# Altium footprint library WR-WTB_1.50mm.PcbLib: 27 footprints (part 2 of 2)
Each footprint in its own frame and in the unit in brackets; x right, y up, seen from the top. Pads: shape width x height; smd on the part's side, far side on the other; paste and mask are expansions set on the pad; w line width, h text height; cw(c..) or ccw(c..) is an arc to the next point about the centre after c.
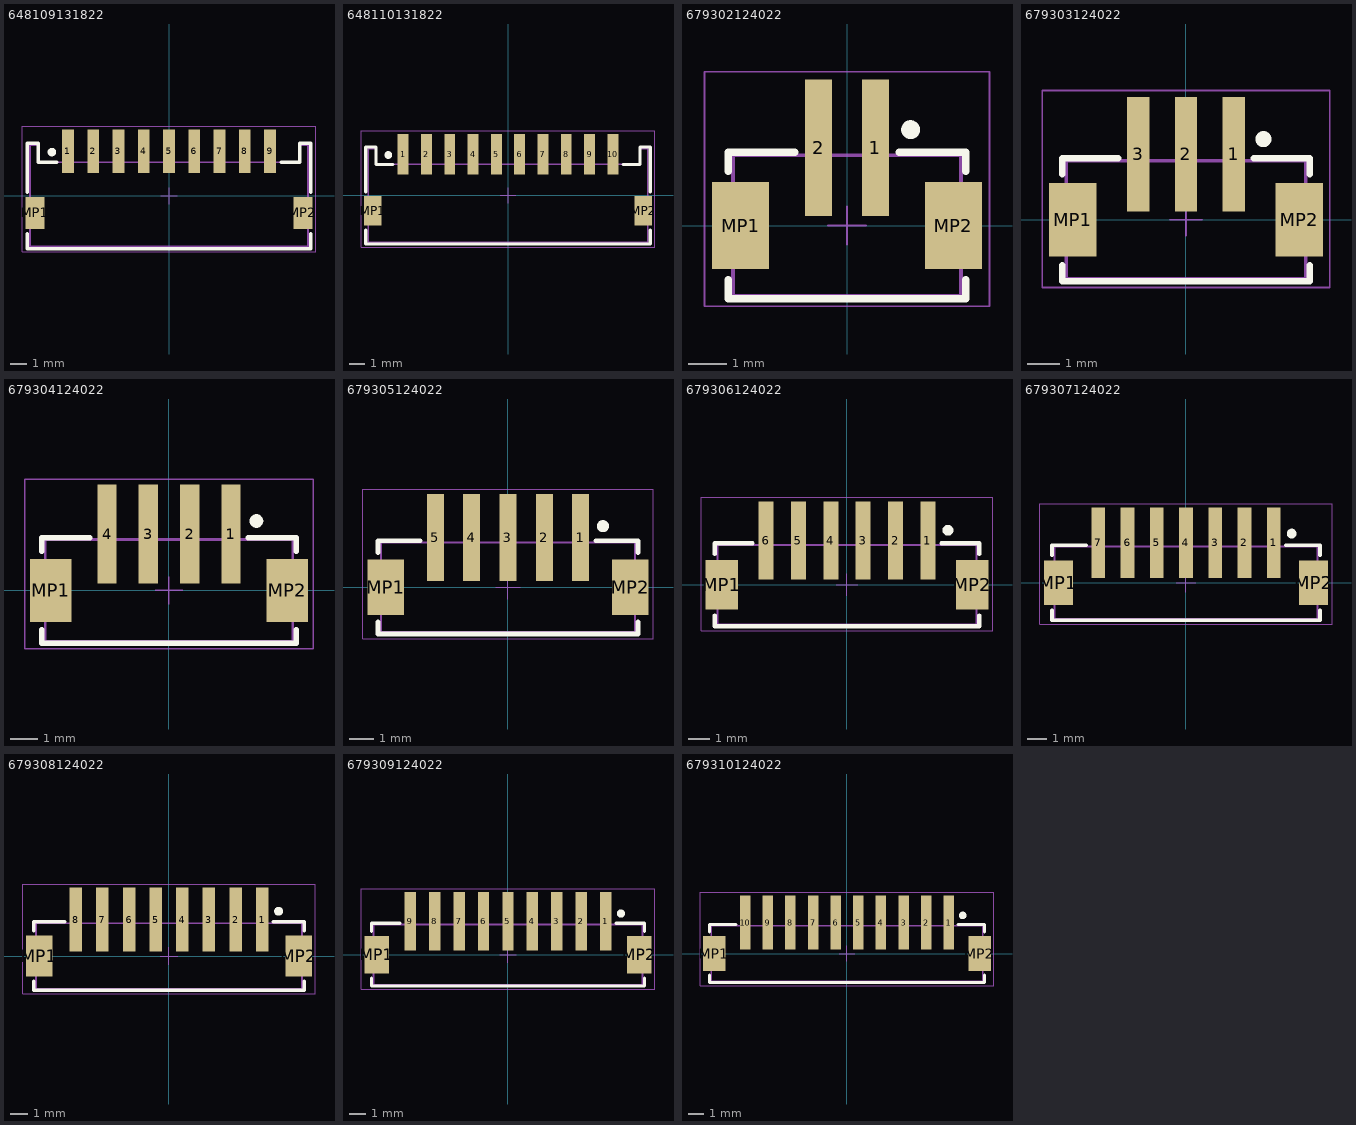
[diagram p1: the footprints below, top view; thin cyan lines are the x and y axes]

## 648109131822 [mm] "1.50mm SMT Male Horizontal Shrouded Header, 9p"
height 3.7
pads (11):
  rect 0.7x2.6 smd: 1(-6,2.65) 2(-4.5,2.65) 3(-3,2.65) 4(-1.5,2.65) 5(0,2.65) 6(1.5,2.65) 7(3,2.65) 8(4.5,2.65) 9(6,2.65)
  rect 1.1x1.9 smd: MP1(-7.95,-1) MP2(7.95,-1)
Top Overlay:
  circle w0.25: c-6.95,2.6 r0.125
  lines w0.2: -8.4,-2.225 -8.4,-3.125 8.4,-3.125 8.4,-2.225 ; -8.4,0.225 -8.4,3.125 -7.75,3.125 -7.75,2 -6.65,2 ; 6.65,2 7.75,2 7.75,3.125 8.4,3.125 8.4,0.225
Mechanical 13:
  lines w0.1: -8.25,-3 -8.25,3 -7.75,3 -7.75,2 7.75,2 7.75,3 8.25,3 8.25,-3 -8.25,-3
Mechanical 15:
  lines w0.05: -0.5,0 0.5,0 ; 0,-0.5 0,0.5 ; -8.7,-3.325 -8.7,4.15 8.7,4.15 8.7,-3.325 -8.7,-3.325
3D body "648109131822.stp": height 3.74, standoff -0.01, extent -8.355,-3 8.355,3.47

## 648110131822 [mm] "1.50mm SMT Male Horizontal Shrouded Header, 10p"
height 3.7
pads (12):
  rect 0.7x2.6 smd: 1(-6.75,2.65) 2(-5.25,2.65) 3(-3.75,2.65) 4(-2.25,2.65) 5(-0.75,2.65) 6(0.75,2.65) 7(2.25,2.65) 8(3.75,2.65) 9(5.25,2.65) 10(6.75,2.65)
  rect 1.1x1.9 smd: MP1(-8.7,-1) MP2(8.7,-1)
Top Overlay:
  circle w0.25: c-7.7,2.6 r0.125
  lines w0.2: -9.15,-2.225 -9.15,-3.125 9.15,-3.125 9.15,-2.225 ; -9.15,0.225 -9.15,3.125 -8.5,3.125 -8.5,2 -7.4,2 ; 7.4,2 8.5,2 8.5,3.125 9.15,3.125 9.15,0.225
Mechanical 13:
  lines w0.1: -9,-3 -9,3 -8.5,3 -8.5,2 8.5,2 8.5,3 9,3 9,-3 -9,-3
Mechanical 15:
  lines w0.05: -0.5,0 0.5,0 ; 0,-0.5 0,0.5 ; -9.45,-3.325 -9.45,4.15 9.45,4.15 9.45,-3.325 -9.45,-3.325
3D body "648110131822.stp": height 3.74, standoff -0.01, extent -9.105,-3 9.105,3.47

## 679302124022 [mm] "1.50mm SMT Male Vertical Shrouded Header, 2p"
height 5
pads (4):
  rect 0.7x3.6 smd: 1(0.75,2.05) 2(-0.75,2.05)
  rect 1.5x2.3 smd: MP1(-2.8,0) MP2(2.8,0)
Top Overlay:
  circle w0.25: c1.675,2.525 r0.125
  lines w0.2: -3.125,-1.425 -3.125,-1.925 3.125,-1.925 3.125,-1.425 ; -3.125,1.425 -3.125,1.925 -1.375,1.925 ; 1.375,1.925 3.125,1.925 3.125,1.425
Mechanical 13:
  lines w0.1: -3,-1.85 3,-1.85 3,1.85 -3,1.85 -3,-1.85
Mechanical 15:
  lines w0.05: -0.5,0 0.5,0 ; 0,-0.5 0,0.5 ; -3.75,-2.125 3.75,-2.125 3.75,4.05 -3.75,4.05 -3.75,-2.125
3D body "679302124022.stp": height 5.49, standoff -0.01, extent -3,-1.85 3,3.35

## 679303124022 [mm] "1.50mm SMT Male Vertical Shrouded Header, 3p"
height 5
pads (5):
  rect 0.7x3.6 smd: 1(1.5,2.05) 2(0,2.05) 3(-1.5,2.05)
  rect 1.5x2.3 smd: MP1(-3.55,0) MP2(3.55,0)
Top Overlay:
  circle w0.25: c2.425,2.525 r0.125
  lines w0.2: -3.875,-1.425 -3.875,-1.925 3.875,-1.925 3.875,-1.425 ; -3.875,1.425 -3.875,1.925 -2.125,1.925 ; 2.125,1.925 3.875,1.925 3.875,1.425
Mechanical 13:
  lines w0.1: -3.75,-1.85 3.75,-1.85 3.75,1.85 -3.75,1.85 -3.75,-1.85
Mechanical 15:
  lines w0.05: -0.5,0 0.5,0 ; 0,-0.5 0,0.5 ; -4.5,-2.125 4.5,-2.125 4.5,4.05 -4.5,4.05 -4.5,-2.125
3D body "679303124022.stp": height 5.49, standoff -0.01, extent -3.75,-1.85 3.75,3.35

## 679304124022 [mm] "1.50mm SMT Male Vertical Shrouded Header, 4p"
height 5
pads (6):
  rect 0.7x3.6 smd: 1(2.25,2.05) 2(0.75,2.05) 3(-0.75,2.05) 4(-2.25,2.05)
  rect 1.5x2.3 smd: MP1(-4.3,0) MP2(4.3,0)
Top Overlay:
  circle w0.25: c3.175,2.525 r0.125
  lines w0.2: -4.625,-1.425 -4.625,-1.925 4.625,-1.925 4.625,-1.425 ; -4.625,1.425 -4.625,1.925 -2.875,1.925 ; 2.875,1.925 4.625,1.925 4.625,1.425
Mechanical 13:
  lines w0.1: -4.5,-1.85 -4.5,1.85 4.5,1.85 4.5,-1.85 -4.5,-1.85
Mechanical 15:
  lines w0.05: -0.5,0 0.5,0 ; 0,-0.5 0,0.5 ; -5.25,-2.125 -5.25,4.05 5.25,4.05 5.25,-2.125 -5.25,-2.125
3D body "679304124022.stp": height 5.49, standoff -0.01, extent -4.5,-1.85 4.5,3.35

## 679305124022 [mm] "1.50mm SMT Male Vertical Shrouded Header, 5p"
height 5
pads (7):
  rect 0.7x3.6 smd: 1(3,2.05) 2(1.5,2.05) 3(0,2.05) 4(-1.5,2.05) 5(-3,2.05)
  rect 1.5x2.3 smd: MP1(-5.05,0) MP2(5.05,0)
Top Overlay:
  circle w0.25: c3.925,2.525 r0.125
  lines w0.2: -5.375,-1.425 -5.375,-1.925 5.375,-1.925 5.375,-1.425 ; -5.375,1.425 -5.375,1.925 -3.625,1.925 ; 3.625,1.925 5.375,1.925 5.375,1.425
Mechanical 13:
  lines w0.1: -5.25,-1.85 5.25,-1.85 5.25,1.85 -5.25,1.85 -5.25,-1.85
Mechanical 15:
  lines w0.05: -0.5,0 0.5,0 ; 0,-0.5 0,0.5 ; -6,-2.125 6,-2.125 6,4.05 -6,4.05 -6,-2.125
3D body "679305124022.stp": height 5.49, standoff -0.01, extent -5.25,-1.85 5.25,3.35

## 679306124022 [mm] "1.50mm SMT Male Vertical Shrouded Header, 6p"
height 5
pads (8):
  rect 0.7x3.6 smd: 1(3.75,2.05) 2(2.25,2.05) 3(0.75,2.05) 4(-0.75,2.05) 5(-2.25,2.05) 6(-3.75,2.05)
  rect 1.5x2.3 smd: MP1(-5.8,0) MP2(5.8,0)
Top Overlay:
  circle w0.25: c4.675,2.525 r0.125
  lines w0.2: -6.125,-1.425 -6.125,-1.925 6.125,-1.925 6.125,-1.425 ; -6.125,1.425 -6.125,1.925 -4.375,1.925 ; 4.375,1.925 6.125,1.925 6.125,1.425
Mechanical 13:
  lines w0.1: -6,-1.85 6,-1.85 6,1.85 -6,1.85 -6,-1.85
Mechanical 15:
  lines w0.05: -0.5,0 0.5,0 ; 0,-0.5 0,0.5 ; -6.75,-2.125 6.75,-2.125 6.75,4.05 -6.75,4.05 -6.75,-2.125
3D body "679306124022.stp": height 5.49, standoff -0.01, extent -6,-1.85 6,3.35

## 679307124022 [mm] "1.50mm SMT Male Vertical Shrouded Header, 7p"
height 5
pads (9):
  rect 0.7x3.6 smd: 1(4.5,2.05) 2(3,2.05) 3(1.5,2.05) 4(0,2.05) 5(-1.5,2.05) 6(-3,2.05) 7(-4.5,2.05)
  rect 1.5x2.3 smd: MP1(-6.55,0) MP2(6.55,0)
Top Overlay:
  circle w0.25: c5.425,2.525 r0.125
  lines w0.2: -6.875,-1.425 -6.875,-1.925 6.875,-1.925 6.875,-1.425 ; -6.875,1.425 -6.875,1.925 -5.125,1.925 ; 5.125,1.925 6.875,1.925 6.875,1.425
Mechanical 13:
  lines w0.1: -6.75,-1.85 6.75,-1.85 6.75,1.85 -6.75,1.85 -6.75,-1.85
Mechanical 15:
  lines w0.05: -0.5,0 0.5,0 ; 0,-0.5 0,0.5 ; -7.5,-2.125 7.5,-2.125 7.5,4.05 -7.5,4.05 -7.5,-2.125
3D body "679307124022.stp": height 5.49, standoff -0.01, extent -6.75,-1.85 6.75,3.35

## 679308124022 [mm] "1.50mm SMT Male Vertical Shrouded Header, 8p"
height 5
pads (10):
  rect 0.7x3.6 smd: 1(5.25,2.05) 2(3.75,2.05) 3(2.25,2.05) 4(0.75,2.05) 5(-0.75,2.05) 6(-2.25,2.05) 7(-3.75,2.05) 8(-5.25,2.05)
  rect 1.5x2.3 smd: MP1(-7.3,0) MP2(7.3,0)
Top Overlay:
  circle w0.25: c6.175,2.525 r0.125
  lines w0.2: -7.625,-1.425 -7.625,-1.925 7.625,-1.925 7.625,-1.425 ; -7.625,1.425 -7.625,1.925 -5.875,1.925 ; 5.875,1.925 7.625,1.925 7.625,1.425
Mechanical 13:
  lines w0.1: -7.5,-1.85 -7.5,1.85 7.5,1.85 7.5,-1.85 -7.5,-1.85
Mechanical 15:
  lines w0.05: -0.5,0 0.5,0 ; 0,-0.5 0,0.5 ; -8.25,-2.125 -8.25,4.05 8.25,4.05 8.25,-2.125 -8.25,-2.125
3D body "679308124022.stp": height 5.49, standoff -0.01, extent -7.5,-1.85 7.5,3.35

## 679309124022 [mm] "1.50mm SMT Male Vertical Shrouded Header, 9p"
height 5
pads (11):
  rect 0.7x3.6 smd: 1(6,2.05) 2(4.5,2.05) 3(3,2.05) 4(1.5,2.05) 5(0,2.05) 6(-1.5,2.05) 7(-3,2.05) 8(-4.5,2.05) 9(-6,2.05)
  rect 1.5x2.3 smd: MP1(-8.05,0) MP2(8.05,0)
Top Overlay:
  circle w0.25: c6.925,2.525 r0.125
  lines w0.2: -8.375,-1.425 -8.375,-1.925 8.375,-1.925 8.375,-1.425 ; -8.375,1.425 -8.375,1.925 -6.625,1.925 ; 6.625,1.925 8.375,1.925 8.375,1.425
Mechanical 13:
  lines w0.1: -8.25,-1.85 -8.25,1.85 8.25,1.85 8.25,-1.85 -8.25,-1.85
Mechanical 15:
  lines w0.05: -0.5,0 0.5,0 ; 0,-0.5 0,0.5 ; -9,-2.125 -9,4.05 9,4.05 9,-2.125 -9,-2.125
3D body "679309124022.stp": height 5.49, standoff -0.01, extent -8.25,-1.85 8.25,3.35

## 679310124022 [mm] "1.50mm SMT Male Vertical Shrouded Header, 10p"
height 5
pads (12):
  rect 0.7x3.6 smd: 1(6.75,2.05) 2(5.25,2.05) 3(3.75,2.05) 4(2.25,2.05) 5(0.75,2.05) 6(-0.75,2.05) 7(-2.25,2.05) 8(-3.75,2.05) 9(-5.25,2.05) 10(-6.75,2.05)
  rect 1.5x2.3 smd: MP1(-8.8,0) MP2(8.8,0)
Top Overlay:
  circle w0.25: c7.675,2.525 r0.125
  lines w0.2: -9.125,-1.425 -9.125,-1.925 9.125,-1.925 9.125,-1.425 ; -9.125,1.425 -9.125,1.925 -7.375,1.925 ; 7.375,1.925 9.125,1.925 9.125,1.425
Mechanical 13:
  lines w0.1: -9,-1.85 9,-1.85 9,1.85 -9,1.85 -9,-1.85
Mechanical 15:
  lines w0.05: -0.5,0 0.5,0 ; 0,-0.5 0,0.5 ; -9.75,-2.125 9.75,-2.125 9.75,4.05 -9.75,4.05 -9.75,-2.125
3D body "679310124022.stp": height 5.49, standoff -0.01, extent -9,-1.85 9,3.35